# Altium schematic symbol library MAX6190AESA+.Schlib: 1 symbol
Pins are listed as number, name and electrical type; pins without a type are passive.

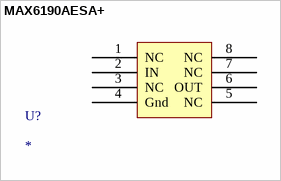
[diagram p0: symbol MAX6190AESA+]

## MAX6190AESA+
designator U?
pins: 1 NC, 2 IN, 3 NC, 4 Gnd, 5 NC, 6 OUT, 7 NC, 8 NC